# Altium footprint library CONN-SPE_TSM110-02-T.PcbLib: 1 footprints
Each footprint in its own frame and in the unit in brackets; x right, y up, seen from the top. Pads: shape width x height; smd on the part's side, far side on the other; paste and mask are expansions set on the pad; w line width, h text height; cw(c..) or ccw(c..) is an arc to the next point about the centre after c.
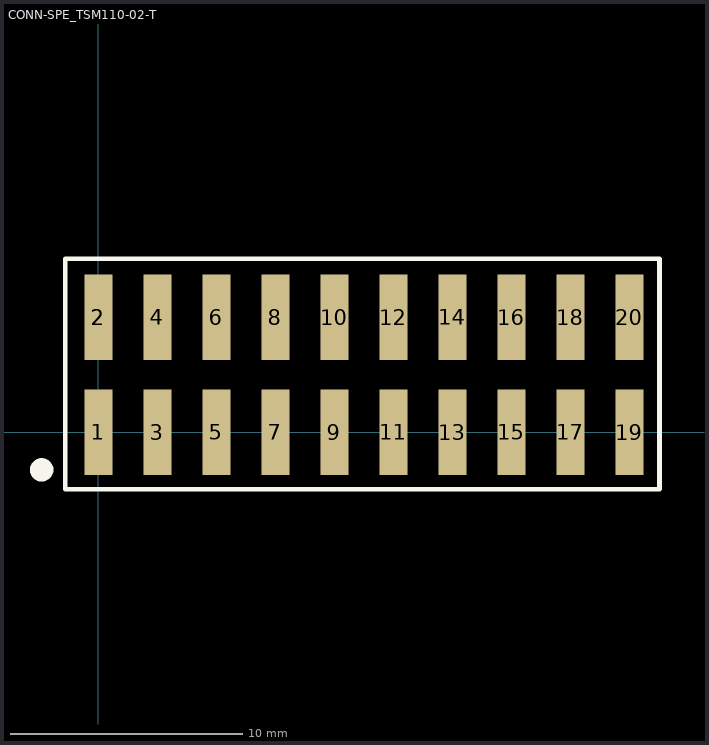
[diagram p0: the footprint, top view; thin cyan lines are the x and y axes]

## CONN-SPE_TSM110-02-T [mm] "16 pin, 2.54mm header"
pads (21):
  rect 1.2x3.68 smd: 1(0,0) 3(2.54,0) 5(5.08,0) 7(7.62,0) 9(10.16,0) 11(12.7,0) 13(15.24,0) 15(17.78,0) 17(20.32,0) 19(22.86,0)
  rect 1.2x3.68 smd paste+0: 2(0,4.95) 2(0,4.95) 4(2.54,4.95) 6(5.08,4.95) 8(7.62,4.95) 10(10.16,4.95) 12(12.7,4.95) 14(15.24,4.95) 16(17.78,4.95) 18(20.32,4.95) 20(22.86,4.95)
Top Overlay:
  circle w0.5: c-2.438,-1.626 r0.254
  lines w0.2: -1.422,-2.464 24.155,-2.464 24.155,7.468 -1.422,7.468 -1.422,-2.464
3D body: height 11.9, standoff -0.04, extent -1.27,-1.067 24.13,6.299